# Altium footprint library PcbLib1.PcbLib: 6 footprints
Each footprint in its own frame and in the unit in brackets; x right, y up, seen from the top. Pads: shape width x height; smd on the part's side, far side on the other; paste and mask are expansions set on the pad; w line width, h text height; cw(c..) or ccw(c..) is an arc to the next point about the centre after c.
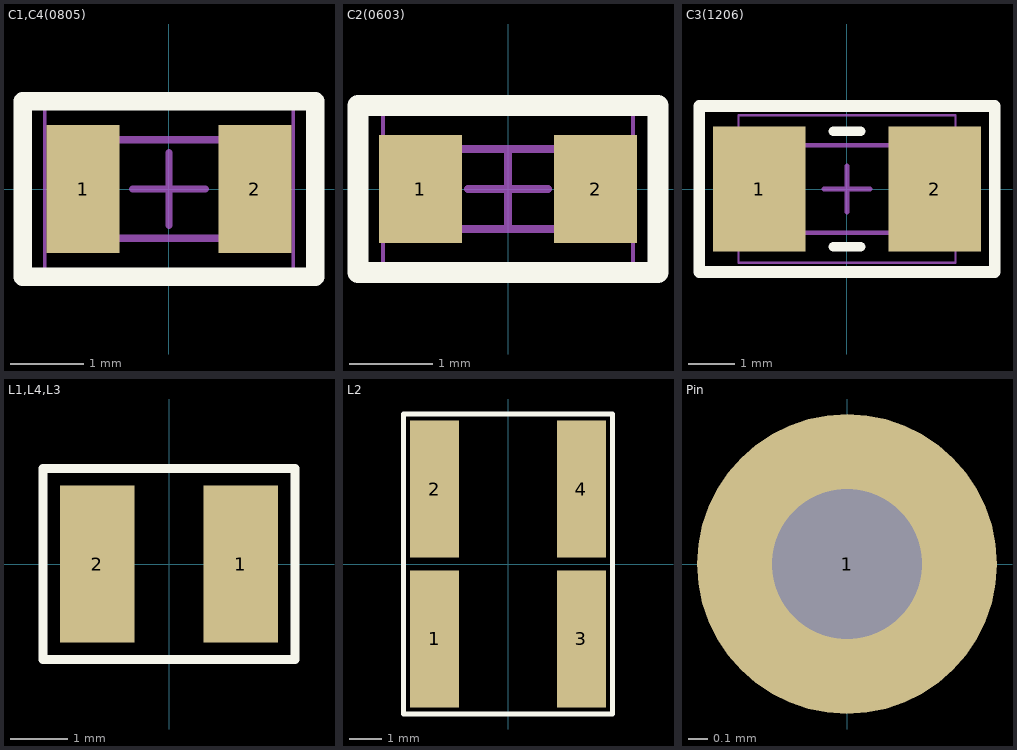
[diagram p0: the footprints below, top view; thin cyan lines are the x and y axes]

## C1,C4(0805) [mm] "Chip Capacitor, 2-Leads, Body 2,00x1,25mm, IPC Medium Density"
height 1.3
pads (2):
  rect 1x1.75 smd: 1(-1.175,0) 2(1.175,0)
Top Overlay:
  lines w0.254: -2,-1.2 2,-1.2 2,1.2 -2,1.2 -2,-1.2
Mechanical 13:
  lines w0.1: -1.1,-0.675 1.1,-0.675 1.1,0.675 -1.1,0.675 -1.1,-0.675
Mechanical 15:
  lines w0.05: -1.7,-1.15 1.7,-1.15 1.7,1.15 -1.7,1.15 -1.7,-1.15
  lines w0.1: -0.5,0 0.5,0 ; 0,-0.5 0,0.5
3D body: height 1.3, standoff 0, extent 0.6,-0.675 1.1,0.675
3D body: height 1.3, standoff 0, extent -1.1,-0.675 -0.6,0.675
3D body: height 1.3, standoff 0, extent -0.6,-0.675 0.6,0.675

## C2(0603) [mm] "Chip Capacitor, 2-Leads, Body 1,60x0,81mm, IPC Medium Density"
height 1.3
pads (2):
  rect 1x1.3 smd: 1(-1.05,0) 2(1.05,0)
Top Overlay:
  lines w0.254: -1.8,-1 1.8,-1 1.8,1 -1.8,1 -1.8,-1
Mechanical 13:
  lines w0.1: -0.875,-0.48 -0.875,0.48 0.875,0.48 0.875,-0.48 -0.875,-0.48
Mechanical 15:
  lines w0.05: -1.5,-0.9 -1.5,0.9 1.5,0.9 1.5,-0.9 -1.5,-0.9
  lines w0.1: -0.48,0 0.48,0 ; 0,-0.48 0,0.48
3D body: height 1.3, standoff 0, extent -0.525,-0.48 0.525,0.48
3D body: height 1.3, standoff 0, extent -0.875,-0.48 -0.525,0.48
3D body: height 1.3, standoff 0, extent 0.525,-0.48 0.875,0.48

## C3(1206) [mm] "Chip Capacitor, 2-Leads, Body 3,20x1,60mm, IPC Medium Density"
height 1.3
pads (2):
  rect 2x2.7 smd: 1(-1.9,0) 2(1.9,0)
Top Overlay:
  lines w0.2: -0.3,-1.25 0.3,-1.25 ; -0.3,1.25 0.3,1.25
  lines w0.254: -3.2,-1.8 -3.2,1.8 3.2,1.8 3.2,-1.8 -3.2,-1.8
Mechanical 13:
  lines w0.1: -1.75,-0.95 1.75,-0.95 1.75,0.95 -1.75,0.95 -1.75,-0.95
Mechanical 15:
  lines w0.05: -2.35,-1.6 2.35,-1.6 2.35,1.6 -2.35,1.6 -2.35,-1.6
  lines w0.1: -0.5,0 0.5,0 ; 0,-0.5 0,0.5
3D body: height 1.3, standoff 0, extent 1.25,-0.95 1.75,0.95
3D body: height 1.3, standoff 0, extent -1.75,-0.95 -1.25,0.95
3D body: height 1.3, standoff 0, extent -1.25,-0.95 1.25,0.95

## L1,L4,L3 [mm]
pads (2):
  rect 1.3x2.74 smd: 1(1.25,0) 2(-1.25,0)
Top Overlay:
  lines w0.154: -2.2,-1.67 -2.2,1.67 2.2,1.67 2.2,-1.67 -2.2,-1.67

## L2 [mm]
pads (4):
  rect 1.5x4.2 smd: 1(-2.25,-2.3) 2(-2.25,2.3) 3(2.25,-2.3) 4(2.25,2.3)
Top Overlay:
  lines w0.154: -3.2,-4.6 3.2,-4.6 3.2,4.6 -3.2,4.6 -3.2,-4.6

## Pin [mil]
pads (1):
  round 60 hole 30: 1(0,0)